# Altium schematic symbol library HMC5883L.SchLib: 1 symbol
Pins are listed as number, name and electrical type; pins without a type are passive.

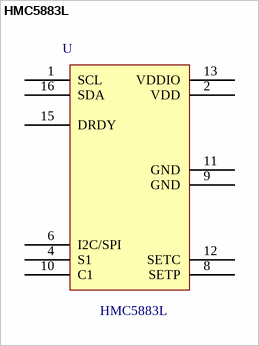
[diagram p0: symbol HMC5883L]

## HMC5883L
designator U  value HMC5883L  (hidden comment: *)
Manufacturer: HONEYWELL M&PS; Manufacturer Code: HMC5883L-TR; Farnell Code: 1971743; Unit Price: 6,11 €
pins: 1 SCL, 2 VDD, 4 S1, 6 I2C/SPI, 8 SETP, 9 GND, 10 C1, 11 GND, 12 SETC, 13 VDDIO, 15 DRDY, 16 SDA